# Altium schematic symbol library PTCFuse.SchLib: 1 symbol
Pins are listed as number, name and electrical type; pins without a type are passive.

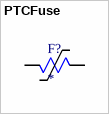
[diagram p0: symbol PTCFuse]

## PTCFuse
designator F?
Resetteable PTC Fuses; Digi-Key Part Number: RHEF070-2HFCT-ND
footprint PTCFuse (Ressettable Fuse)
footprint PTCFUSE2 (Resettable Fuse Version 2)
pins: 1, 2